# EAGLE library part L3GD20HTR (library Sensor)
Gyroscopes MEMS motion sensor: 3-axis digital output gyroscope Manufacturer's datasheet <https://www.st.com/content/ccc/resource/technical/document/datasheet/35/b1/e0/39/71/57/43/01/DM00060659.pdf/files/DM00060659.pdf/jcr:content/translations/en.DM00060659.pdf>
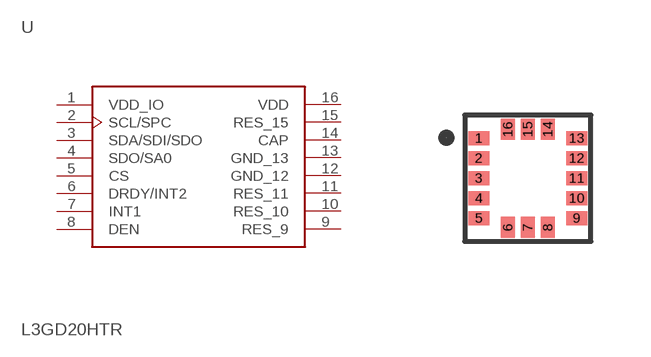
[diagram p17: symbol with the pads of LGA-16; footprint LGA-16]

Designator prefix U

## L3GD20HTR (CREATED_BY: PCBLayout.com; DIGIKEY_PART_NUMBER: 497-13931-1-ND; MANUFACTURER: STMicroelectronics; MPN: L3GD20HTR; PACKAGE: LGA-16)  [LGA-16]
1  VDD_IO  pwr
2  SCL/SPC
3  SDA/SDI/SDO
4  SDO/SA0
5  CS
6  DRDY/INT2
7  INT1
8  DEN
9  RES_9  pas
10  RES_10  pas
11  RES_11  pas
12  GND_12  pwr
13  GND_13  pwr
14  CAP  pas
15  RES_15  pas
16  VDD  pwr

## Footprint LGA-16 (pad centres in mm)
smd 0.52 x 0.35: 1 -1.225,1; 2 -1.225,0.5; 3 -1.225,0; 4 -1.225,-0.5; 5 -1.225,-1; 9 1.225,-1; 10 1.225,-0.5; 11 1.225,0; 12 1.225,0.5; 13 1.225,1
smd 0.35 x 0.52: 6 -0.5,-1.225; 7 0,-1.225; 8 0.5,-1.225; 14 0.5,1.225; 15 0,1.225; 16 -0.5,1.225